# EAGLE library part S24SE05004PDFA (library S24SE05004PDFA)
None
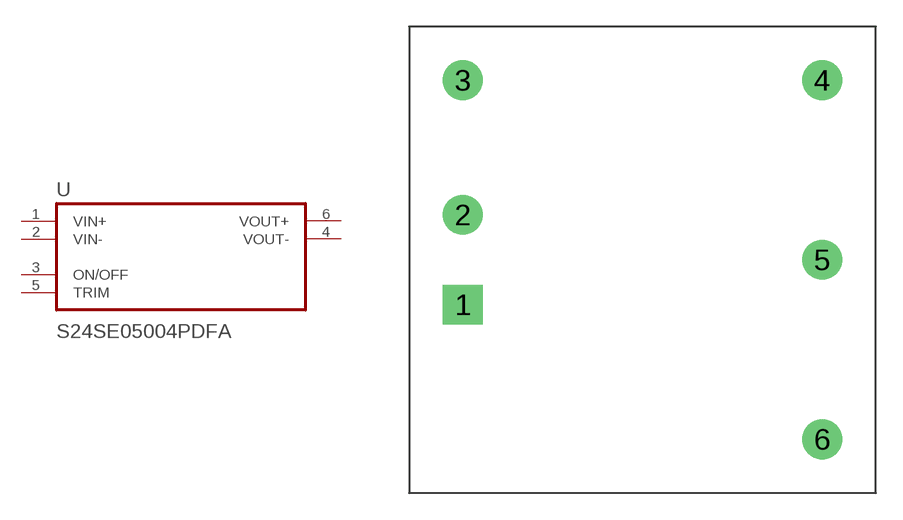
[diagram p0: symbol with the pads of CONV_S24SE05002PDFA; footprint CONV_S24SE05002PDFA]

Designator prefix U

## S24SE05004PDFA (Availability: Warning; Description: DC/DC CONVERTER 5V 4A 20W 6DIP; MF: Delta Electronics; MP: S24SE05004PDFA; Package: DIP-6 Delta; Price: 35.63 USD)  [CONV_S24SE05002PDFA]
1  VIN+  in
2  VIN-  in
3  ON/OFF
4  VOUT-  out
5  TRIM
6  VOUT+  out

## Footprint CONV_S24SE05002PDFA (pad centres in mm)
drill 1.5 square: 1 -10.16,-2.54
drill 1.5: 2 -10.16,2.54; 3 -10.16,10.16; 4 10.16,10.16; 5 10.16,0; 6 10.16,-10.16